# Altium schematic symbol library TPS628610YCHR.SchLib: 1 symbol
Pins are listed as number, name and electrical type; pins without a type are passive.

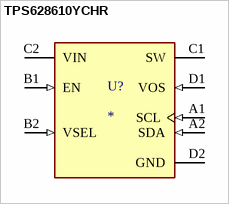
[diagram p0: symbol TPS628610YCHR]

## TPS628610YCHR
designator U?
1.8-V to 5.5-V input, tiny, 1-A ultra-low Iq step-down converter with I2C/VSEL interface 8-DSBGA -40 to 125; MF: {'manufacturer': u'Texas Instruments'}; MP: TPS628610YCHR; Package: None; Price: None; Value: *; Availability: Unavailable
footprint BGA8N35P4X2_136X66X40N
pins: A1 SCL (in), A2 SDA (in), B1 EN (in), B2 VSEL (in), C1 SW (power), C2 VIN (power), D1 VOS (in), D2 GND (power)